# Altium schematic symbol library FPGA-pcie.SCHLIB: 44 symbols
Pins are listed as number, name and electrical type; pins without a type are passive.

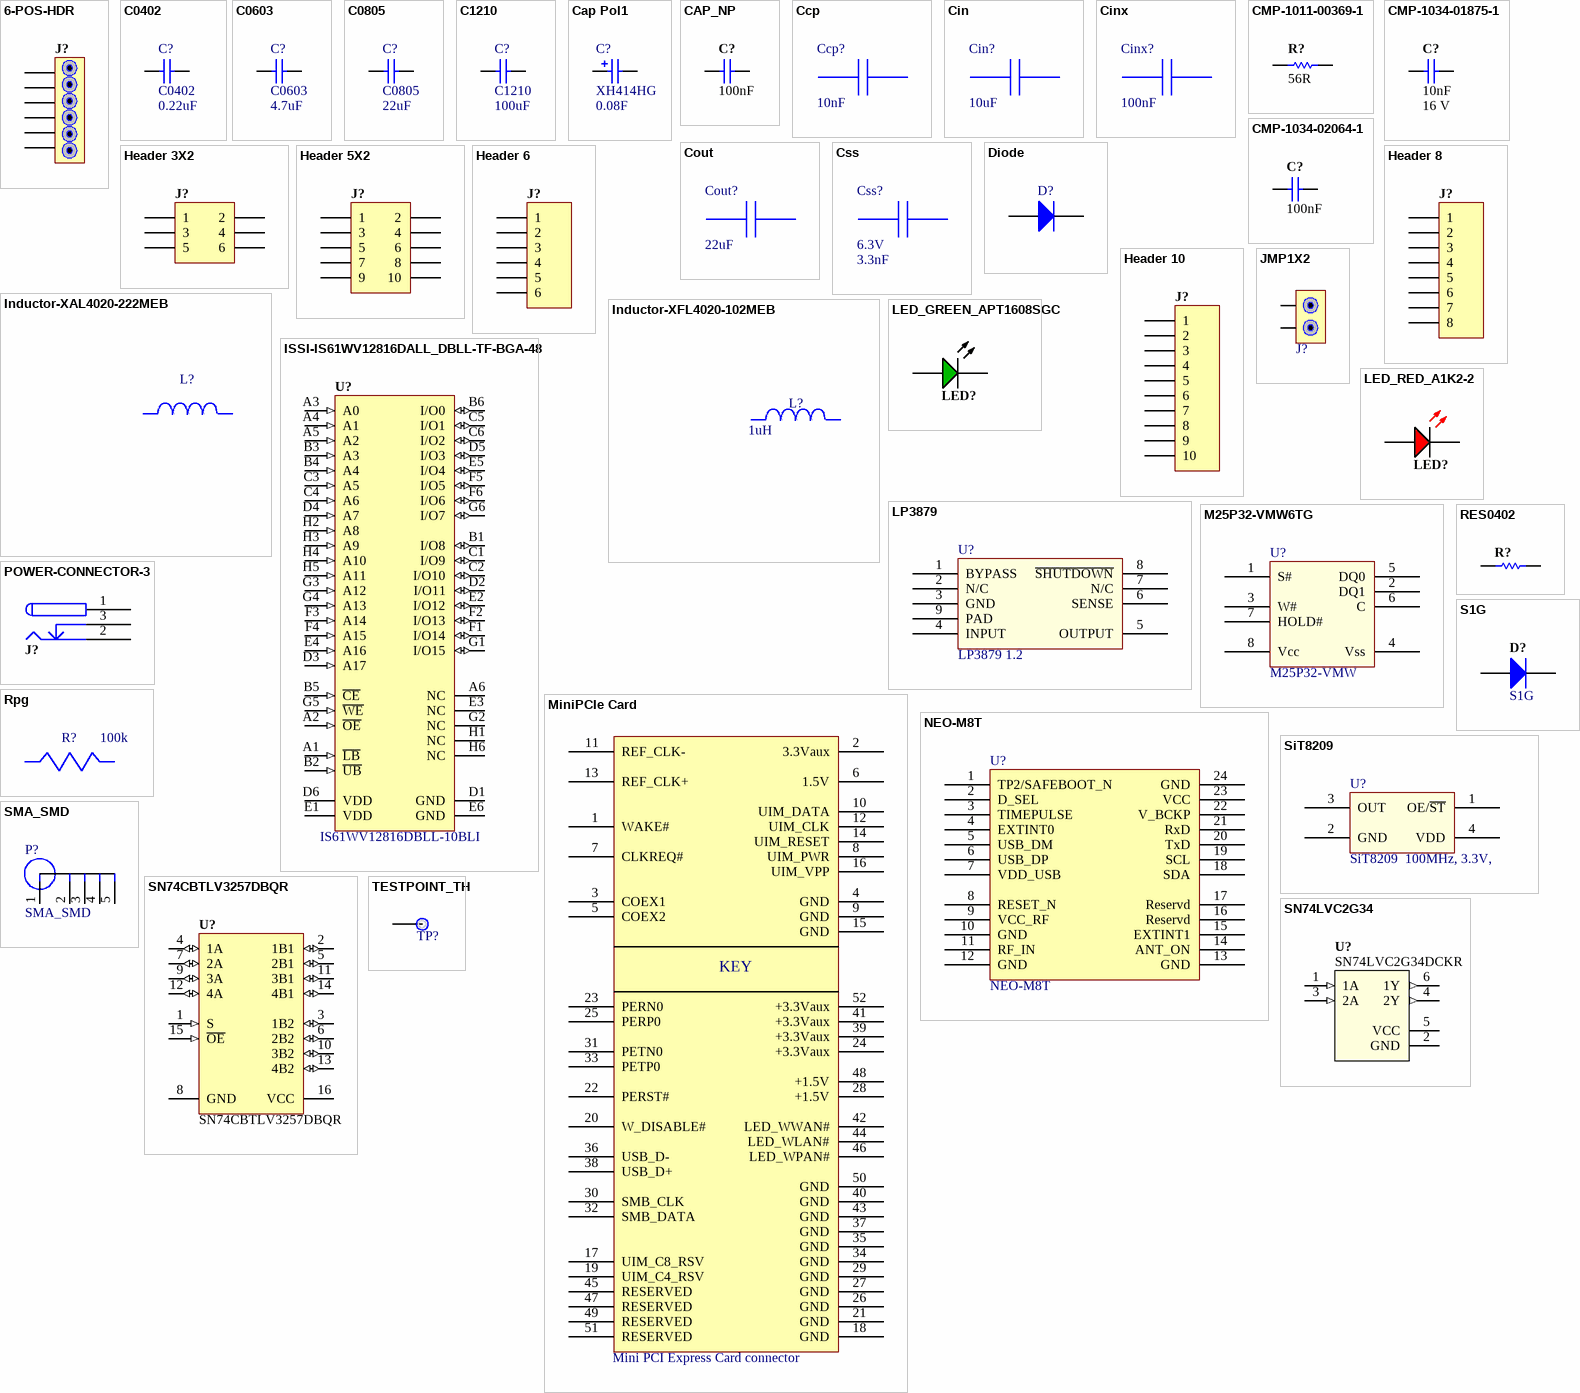
[diagram p0: symbols 6-POS-HDR to TESTPOINT_TH]

## 6-POS-HDR
designator J?, comment 6-POS VERTICAL HEADER  (value not drawn)
Manufacturer_PN: 68000-406HLF; Manufacturer Part Number: 68000-406HLF
footprint HDR1X6 (Footprint not found)
signal-integrity model Connector
footprint 1X06
pins: 1, 2, 3, 4, 5, 6

## C0402
designator C?  value 0.22uF
Ceramic Chip Capacitor - Standard; Note: Footprint corresponds to dimensions for bulk cassette packaging. This case size has tightened tolerances.; Published: 17-Jul-2002; LatestRevisionDate: 19-Mar-2004; LatestRevisionNote: Silkscreen size reduced.; DatasheetDocument: Mar-2001; PackageDocument: Mar-2001; PackageReference: 0402; Publisher: Altium Limited; Code_JEITA: 0402; Code_IPC: 1005 [0402]; ComponentLink1Description: Manufacturer Link; ComponentLink1URL: http://www.kemet.com/; ComponentLink2Description: Datasheet; ComponentLink2URL: http://www.kemet.com/kemet/web/homepage/kechome.nsf/vapubfilesname/F3102TA.pdf/$file/F3102TA.pdf
footprint CAPC0402(1005)60_L
pins: 1, 2

## C0603
designator C?  value 4.7uF
Ceramic Chip Capacitor - Standard; Note: Footprint corresponds to dimensions for bulk cassette packaging. This case size has tightened tolerances.; Published: 17-Jul-2002; LatestRevisionDate: 19-Mar-2004; LatestRevisionNote: Silkscreen size reduced.; DatasheetDocument: Mar-2001; PackageDocument: Mar-2001; PackageReference: 0603; Publisher: Altium Limited; Code_JEITA: 0603; Code_IPC: 1608 [0603]; ComponentLink1Description: Manufacturer Link; ComponentLink1URL: http://www.kemet.com/; ComponentLink2Description: Datasheet; ComponentLink2URL: http://www.kemet.com/kemet/web/homepage/kechome.nsf/vapubfilesname/F3102TA.pdf/$file/F3102TA.pdf
footprint CAPC0603(1608)55_L
pins: 1, 2

## C0805
designator C?  value 22uF
Ceramic Chip Capacitor - Standard; Note: Footprint corresponds to dimensions for bulk cassette packaging. This case size has tightened tolerances.; Published: 17-Jul-2002; LatestRevisionDate: 19-Mar-2004; LatestRevisionNote: Silkscreen size reduced.; DatasheetDocument: Mar-2001; PackageDocument: Mar-2001; PackageReference: 0805; Publisher: Altium Limited; Code_JEITA: 0805; Code_IPC: 2012[0805]; ComponentLink1Description: Manufacturer Link; ComponentLink1URL: http://www.kemet.com/; ComponentLink2Description: Datasheet; ComponentLink2URL: http://www.kemet.com/kemet/web/homepage/kechome.nsf/vapubfilesname/F3102TA.pdf/$file/F3102TA.pdf
footprint C-0805 (贴片电容)
simulation model CAP (Capacitor)
signal-integrity model C0805
pins: 1, 2

## C1210
designator C?  value 100uF
GRM32ER60J107ME20L; Manufacturer Name: Murata; Manufacturer Part Number: GRM32ER60J107ME20L
footprint C-1210 (贴片电容)
simulation model CAP (Capacitor)
signal-integrity model C1210
pins: 1, 2

## Cap Pol1
designator C?, comment XH414HG  value 0.08F
Polarized Capacitor (Radial); Published: 8-Jun-2000; LatestRevisionDate: 17-Jul-2002; LatestRevisionNote: Re-released for DXP Platform.; PackageReference: RB7.6-15; Publisher: Altium Limited
pins: 1, 2
1 alternate drawing of the same symbol

## CAP_NP
designator C?, comment value 100nF  (hidden comment: CAP 100nF 16V 0402(1005))
Manufacturer_PN: C0402C104K8PACTU; Case-EIA: 0402; Case-Metric: 1005; Tolerance: ±10%; Max Thickness: 0.6 mm; Rated Voltage: 16 V; Technology: SMT; Manufacturer Part Number: C0402C104K8PACTU
footprint CAPC0402(1005)60_L
footprint CAPC0402(1005)60_N
pins: 1, 2
1 alternate drawing of the same symbol

## Ccp
designator Ccp?, comment value 10nF  (hidden comment: GRM155R71E103KA01D)
GRM155R71E103KA0; Manufacturer Name: MuRata; PackageReference: GRM155R71E103KA01D; Manufacturer Part Number: GRM155R71E103KA01D
footprint CAPC0402(1005)60_L
pins: 1, 2

## Cin
designator Cin?, comment value 10uF  (hidden comment: GRM31CR61E106KA12L)
GRM31CR61E106KA1; Manufacturer Name: MuRata; PackageReference: GRM31CR61E106KA12L; Manufacturer Part Number: GRM31CR61E106KA12L
footprint 1206 (贴片元件)
pins: 1, 2

## Cinx
designator Cinx?, comment value 100nF  (hidden comment: C0603C104K3RACTU)
Manufacturer Name: Kemet; PackageReference: C0603C104K3RACTU; Manufacturer Part Number: C0603C104K3RACTU
footprint C-0603 (贴片电容)
pins: 1, 2

## CMP-1011-00369-1
designator R?, comment value 56R  (hidden comment: 56R 1% 0402(1005))
56R 0.063W 1% 0402 (1005 Metric)  SMD; Manufacturer_PN: RC0402FR-0756RL; Case-Metric: 1005; Case-EIA: 0402; Power: 0.063 W; Tolerance: 1 %; Technology: SMT; Manufacturer Part Number: RC0402FR-0756RL
footprint RESC0402(1005)_N (Chip Resistor, Body 1.0x0.5mm, IPC Medium Density)
footprint RESC0402(1005)_M (Chip Resistor, Body 1.0x0.5mm, IPC Low Density)
footprint RESC0402(1005)_L (Chip Resistor, Body 1.0x0.5mm, IPC High Density)
pins: 1, 2
1 alternate drawing of the same symbol

## CMP-1034-01875-1
designator C?, comment value 10nF  Rated Voltage: 16 V  (hidden comment: CAP 10nF 16V 0402(1005))
CAP 10nF 16V ±10% 0402 (1005 Metric) Thickness 0.33mm SMD; Manufacturer_PN: GRM155R61C103KA01D; Case-EIA: 0402; Case-Metric: 1005; Max Thickness: 0.33 mm; Tolerance: ±10%; Technology: SMT; Manufacturer Part Number: GRM155R61C103KA01D
footprint CAPC0402(1005)33_L (Chip Capacitor, Body 1.0x0.5mm, Height 0.33mm, IPC High Density)
footprint CAPC0402(1005)33_M (Chip Capacitor, Body 1.0x0.5mm, Height 0.33mm, IPC Low Density)
footprint CAPC0402(1005)33_N (Chip Capacitor, Body 1.0x0.5mm, Height 0.33mm, IPC Medium Density)
pins: 1, 2
1 alternate drawing of the same symbol

## CMP-1034-02064-1
designator C?, comment value 100nF  (hidden comment: CAP 100nF 10V 0402(1005))
CAP 100nF 10V ±5% 0402 (1005 Metric) Thickness 0.6mm SMD; Manufacturer_PN: C0402C104K8PACTU; Case-EIA: 0402; Case-Metric: 1005; Max Thickness: 0.6 mm; Tolerance: ±5%; Rated Voltage: 10 V; Technology: SMT; Manufacturer Part Number: C0402C104K8PACTU
footprint CAPC0402(1005)60_L (Chip Capacitor, Body 1.0x0.5mm, Height 0.6mm, IPC High Density)
footprint CAPC0402(1005)60_N (Chip Capacitor, Body 1.0x0.5mm, Height 0.6mm, IPC Medium Density)
footprint CAPC0402(1005)60_M (Chip Capacitor, Body 1.0x0.5mm, Height 0.6mm, IPC Low Density)
pins: 1, 2
1 alternate drawing of the same symbol

## Cout
designator Cout?, comment value 22uF  (hidden comment: LMK212BJ226MG-T)
Manufacturer Name: Taiyo Yuden; PackageReference: LMK212BJ226MG-T; Manufacturer Part Number: LMK212BJ226MG-T
footprint C-0805 (贴片电容)
pins: 1, 2

## Css
designator Css?, comment 6.3V  value 3.3nF
GRM022R60J332KE19D; Manufacturer Name: MuRata; PackageReference: GRM022R60J332KE19D; Manufacturer Part Number: GRM022R60J332KE19D
footprint CAPC0402(1005)60_L
pins: 1, 2

## Diode
designator D?
Default Diode; Published: 8-Jun-2000; LatestRevisionDate: 17-Jul-2002; LatestRevisionNote: Re-released for DXP Platform.; PackageDocument: Sep-1996; PackageReference: SMC; Publisher: Altium Limited; Code_JEDEC: DO-214-AB
simulation model DIODE (Diode)
signal-integrity model Diode
pins: 1 A, 2 K

## Header 3X2
designator J?  (value not drawn)
Header, 3-Pin, Dual row; Manufacturer_PN: DNP; LatestRevisionDate: 17-Jul-2002; LatestRevisionNote: Re-released for DXP Platform.; Publisher: Altium Limited; Manufacturer Part Number: DNP
footprint 2X03
signal-integrity model Connector
pins: 1, 2, 3, 4, 5, 6

## Header 5X2
designator J?  (value not drawn)
Header, 5-Pin, Dual row; Manufacturer_PN: 67997-210HLF; LatestRevisionDate: 17-Jul-2002; LatestRevisionNote: Re-released for DXP Platform.; Publisher: Altium Limited; Manufacturer Part Number: 67997-210HLF
footprint HDR2X5 (Connector; Header; 5x2 Position)
signal-integrity model Connector
pins: 1, 2, 3, 4, 5, 6, 7, 8, 9, 10

## Header 6
designator J?  (value not drawn)
Header, 6-Pin; Manufacturer_PN: DNP; LatestRevisionDate: 17-Jul-2002; LatestRevisionNote: Re-released for DXP Platform.; Publisher: Altium Limited; Manufacturer Part Number: DNP
footprint 1X06
signal-integrity model Connector
pins: 1, 2, 3, 4, 5, 6

## Header 8
designator J?  (value not drawn)
Header, 8-Pin; Manufacturer_PN: DNP; LatestRevisionDate: 17-Jul-2002; LatestRevisionNote: Re-released for DXP Platform.; Publisher: Altium Limited; Manufacturer Part Number: DNP
footprint 1X08
signal-integrity model Connector
pins: 1, 2, 3, 4, 5, 6, 7, 8

## Header 10
designator J?  (value not drawn)
Header, 10-Pin; Manufacturer_PN: DNP; LatestRevisionDate: 17-Jul-2002; LatestRevisionNote: Re-released for DXP Platform.; Publisher: Altium Limited; Manufacturer Part Number: DNP
footprint 1X10@1
signal-integrity model Connector
pins: 1, 2, 3, 4, 5, 6, 7, 8, 9, 10

## Inductor-XAL4020-222MEB
designator L?, comment L1  (value not drawn)
XAL4020-222MEB; Manufacturer Name: Coilcraft; PackageReference: XAL4020-222MEB; Manufacturer Part Number: XAL4020-222MEB
footprint XAL4020
pins: 1, 2

## Inductor-XFL4020-102MEB
designator L?, comment value 1uH  (hidden comment: XFL4020-102MEB)
Manufacturer Name: Coilcraft; Manufacturer Part Number: XFL4020-102MEB
footprint XFL4020
pins: 1, 2

## ISSI-IS61WV12816DALL_DBLL-TF-BGA-48
designator U?, comment IS61WV12816DBLL-10BLI
2 M High Speed Asynchronous CMOS SRAM, 128 K x 16, -40 to 85 degC, 48-Pin BGA (TF-BGA-48), Pb-Free; Manufacturer: Integrated Silicon Solution Inc (ISSI); Speed (ns): 10; Packing: Tray / Tube; Mounting Technology: Surface Mount; DatasheetVersion: Rev. D; PackageReference: TF-BGA-48; ComponentLink2URL: http://www.issi.com/WW/pdf/61-64WV12816DAxx-DBxx.pdf; PartNumber: IS61WV12816DBLL-10BLI; ComponentLink2Description: Datasheet; PackageDescription: 48-Pin 6 x 8 mm TF-BGA, Pitch 0.75 mm; ComponentLink1Description: Manufacturer URL; Code_JEDEC: MO-207; PackageVersion: Rev. C, 08/2008; Organization: 128K x 16; RoHS: Pb-Free; ComponentLink1URL: http://www.issi.com/US/index.shtml; ComponentLink3URL: http://www.issi.com/WW/pdf/61-64WV25616.pdf; ComponentLink3Description: Package Specification; Manufacturer_PN: IS61WV12816DBLL-10BLI; Manufacturer Part Number: IS61WV12816DBLL-10BLI
footprint ISSI-TF-BGA-48-6000X8000DE (BGA, 48-Balls, Body 8x6mm, Pitch 0.75mm)
pins: A1 ~{LB} (in) "Lower-byte Control (I/O0-I/O7)", A2 ~{OE} (in) "Output Enable Input", A3 A0 (in) "Address Input", A4 A1 (in) "Address Input", A5 A2 (in) "Address Input", A6 NC "No Connection", B1 I/O8 (io) "Data Input/Output", B2 ~{UB} (in) "Upper-byte Control (I/O8-I/O15)", B3 A3 (in) "Address Input", B4 A4 (in) "Address Input", B5 ~{CE} (in) "Chip Enable Input", B6 I/O0 (io) "Data Input/Output", C1 I/O9 (io) "Data Input/Output", C2 I/O10 (io) "Data Input/Output", C3 A5 (in) "Address Input", C4 A6 (in) "Address Input", C5 I/O1 (io) "Data Input/Output", C6 I/O2 (io) "Data Input/Output", D1 GND (power) "Ground", D2 I/O11 (io) "Data Input/Output", D3 A17 (in) "Address Input", D4 A7 (in) "Address Input", D5 I/O3 (io) "Data Input/Output", D6 VDD (power) "Power", E1 VDD (power) "Power", E2 I/O12 (io) "Data Input/Output", E3 NC "No Connection", E4 A16 (in) "Address Input", E5 I/O4 (io) "Data Input/Output", E6 GND (power) "Ground", F1 I/O14 (io) "Data Input/Output", F2 I/O13 (io) "Data Input/Output", F3 A14 (in) "Address Input", F4 A15 (in) "Address Input", F5 I/O5 (io) "Data Input/Output", F6 I/O6 (io) "Data Input/Output", G1 I/O15 (io) "Data Input/Output", G2 NC "No Connection", G3 A12 (in) "Address Input", G4 A13 (in) "Address Input", G5 ~{WE} (in) "Write Enable Input", G6 I/O7 (io) "Data Input/Output", H1 NC "No Connection", H2 A8 (in) "Address Input", H3 A9 (in) "Address Input", H4 A10 (in) "Address Input", H5 A11 (in) "Address Input", H6 NC "No Connection"

## JMP1X2
designator J?, comment Jumper  (value not drawn)
Standard 2 Pin Jumper, 100mil spacing; Manufacturer_PN: M20-9770246; Manufacturer Part Number: M20-9770246
footprint JMP1X2
signal-integrity model Connector
pins: 1, 2

## LED_GREEN_APT1608SGC
designator LED?  (value not drawn)
SMD 0603 LED, GREEN; DefaultDesignator: LED?; Class: Diodes; Forward Voltage (Vf): 2.2V; PartNumber: APT1608SGC; Sub Class: LED; Color: Green; Manufacturer_PN: APT1608SGC; Manufacturer Part Number: APT1608SGC
footprint LED0603 (Footprint not found)
pins: 1 A, 2 K

## LED_RED_A1K2-2
designator LED?, comment 0402-LED-RED  (value not drawn)
0402 LED,RED; Manufacturer_PN: LTST-C190KRKT; ID: CMP-0201-0013; DefaultDesignator: LED?; Class: Diodes; Current Average (Io): 1.8V; Sub Class: LED; Reverse Voltage DC (Vr): Red; ComponentLink1Description: Datasheet; ComponentLink1URL: http://optoelectronics.liteon.com/upload/download/DS-22-99-0151/S_110_LTST-C190KRKT.pdf; ComponentLink2Description: Manufacturer; ComponentLink2URL: http://www.liteon.com; Manufacturer Part Number: LTST-C190KRKT
footprint LED_0402
pins: 1 A, 2 K

## LP3879
designator U?, comment LP3879 1.2
footprint MRA08A
pins: 1 BYPASS, 2 N/C, 3 GND, 4 INPUT, 5 OUTPUT, 6 SENSE, 7 N/C, 8 ~{SHUTDOWN}, 9 PAD

## M25P32-VMW6TG
designator U?, comment M25P32-VMW
footprint SOIC-8W (SPI_FLASH)
pins: 1 S#, 2 DQ1, 3 W#, 4 Vss, 5 DQ0, 6 C, 7 HOLD#, 8 Vcc

## MiniPCIe Card
designator CN?, comment Mini PCI Express Card connector  (no BOM)
footprint MC2716
pins: 1 WAKE#, 2 3.3Vaux, 3 COEX1, 4 GND, 5 COEX2, 6 1.5V, 7 CLKREQ#, 8 UIM_PWR, 9 GND, 10 UIM_DATA, 11 REF_CLK-, 12 UIM_CLK, 13 REF_CLK+, 14 UIM_RESET, 15 GND, 16 UIM_VPP, 17 UIM_C8_RSV, 18 GND, 19 UIM_C4_RSV, 20 W_DISABLE#, 21 GND, 22 PERST#, 23 PERN0, 24 +3.3Vaux, 25 PERP0, 26 GND, 27 GND, 28 +1.5V, 29 GND, 30 SMB_CLK, 31 PETN0, 32 SMB_DATA, 33 PETP0, 34 GND, 35 GND, 36 USB_D-, 37 GND, 38 USB_D+, 39 +3.3Vaux, 40 GND, 41 +3.3Vaux, 42 LED_WWAN#, 43 GND, 44 LED_WLAN#, 45 RESERVED, 46 LED_WPAN#, 47 RESERVED, 48 +1.5V, 49 RESERVED, 50 GND, 51 RESERVED, 52 +3.3Vaux
text: KEY

## NEO-M8T
designator U?
footprint NEO (u-blox NEO GNSS module)
pins: 1 TP2/SAFEBOOT_N, 2 D_SEL, 3 TIMEPULSE, 4 EXTINT0, 5 USB_DM, 6 USB_DP, 7 VDD_USB, 8 RESET_N, 9 VCC_RF, 10 GND, 11 RF_IN, 12 GND, 13 GND, 14 ANT_ON, 15 EXTINT1, 16 Reservd, 17 Reservd, 18 SDA, 19 SCL, 20 TxD, 21 RxD, 22 V_BCKP, 23 VCC, 24 GND

## POWER-CONNECTOR-3
designator J?, comment PWR CONNECTOR  (value not drawn)
Connector, 3 Conductor Power Jack; Manufacturer_PN: CP-102AH-ND; Connector type: POWERJACK 3 HEADER; ClassName: PWR_CONN_5V0; Category: Connector; Mounting Technology: PTH; Pin Count: 3; Manufacturer Part Number: CP-102AH-ND
footprint PJ-102AH
3D model Socket_1
pins: 1 (power), 2 (power), 3 (power)

## RES0402
designator R?, comment 0402  (value not drawn)
Manufacturer_PN: ？; Case-Metric: 1005; Power: 1/16 W; Temp Coefficient ppm/°C: ±100; Tolerance %: 1%; Value (Ohms): 4700; Case-EIA: 0402; Technology: SMT; Manufacturer Part Number: ？
footprint RESC0402(1005)40_L
footprint RESC0402(1005)_N
pins: 1, 2
1 alternate drawing of the same symbol

## Rpg
designator R?, comment value 100k  (hidden comment: CRCW0402100KFKED)
Manufacturer Name: Vishay-Dale; PackageReference: CRCW0402100KFKED; Manufacturer Part Number: CRCW0402100KFKED
pins: 1, 2

## S1G
designator D?
Fairchild S1G General Purpose Rectifier; Vrrm: 400V; If(AV): 1.0A; Ifsm: 30A; Pd: 1.4W; Trr: 1.8uS; Ct: 6.6pF; Package: DO-214AC; Manufacturer_PN: S1G; Manufacturer Part Number: S1G
footprint DO-214AC (SMA, 2-Leads, Body 4.245x2.665mm, Height 2.29mm)
pins: 1, 2

## SiT8209
designator U?, comment SiT8209  100MHz, 3.3V,
pins: 1 OE/~{ST}, 2 GND, 3 OUT, 4 VDD

## SMA_SMD
designator P?
footprint SMA
pins: 1, 2, 3, 4, 5

## SN74CBTLV3257DBQR
designator U?
Low-Voltage 4-Bit 1-Of-2 FET Multiplexer/Demultiplexer, 16-pin SOP (DBQ16); Supply Voltage: 2.3 to 3.6 V; Channel: 4; DatasheetVersion: SCDS040J, 10/2003; Mounting Technology: Surface Mount; PartNumber: SN74CBTLV3257DBQR; ComponentLink3URL: http://www.ti.com/lit/ml/msoi004g/msoi004g.pdf; ComponentLink2Description: Datasheet; ComponentLink1URL: http://www.ti.com/; PackageVersion: 4073301-2/H, 10/2008; ComponentLink1Description: Manufacturer URL; ComponentLink3Description: Package Specification; PackageDescription: 16-Pin Plastic Small Outline, 3.9 x 4.9 mm Body, 0.635 mm Pitch; ComponentLink2URL: http://www.ti.com/lit/ds/symlink/sn74cbtlv3257.pdf; PackageReference: DBQ16; Manufacturer_PN: SN74CBTLV3257DBQR; Manufacturer Part Number: SN74CBTLV3257DBQR
footprint DBQ16
pins: 1 S (in), 2 1B1 (io), 3 1B2 (io), 4 1A (io), 5 2B1 (io), 6 2B2 (io), 7 2A (io), 8 GND (power), 9 3A (io), 10 3B2 (io), 11 3B1 (io), 12 4A (io), 13 4B2 (io), 14 4B1 (io), 15 ~{OE} (in), 16 VCC (power)

## SN74LVC2G34
designator U?, comment SN74LVC2G34DCKR
IC BUFFER DUAL NON-INV SC706; Manufacturer: Texas Instruments; DefaultDesignator: U?; Class: Logic; Sub Class: Buffer-Line Driver; Description2: IC BUFF/DVR TRI-ST OCTAL 20-VQFN; Logic Type: Buffer/Line Driver, Non-Inverting; Number of Elements: 2; Number of Bits per Element: 4; Current - Output High, Low: 24mA, 24mA; Voltage - Supply: 1.65 V ~ 3.6 V; PartNumber: SN74LVC2G34DCKR; ComponentLink1Description: Datasheet; ComponentLink1URL: http://www.ti.com/lit/ds/symlink/sn74lvc2g34.pdf; ComponentLink2Description: Manufacturer; ComponentLink2URL: www.ti.com; Series: 74LVC; Operating Temperature: -40°C ~ 125°C; Manufacturer_PN: SN74LVC2G34DCKR; Manufacturer Part Number: SN74LVC2G34DCKR
footprint TI-DCK6_L
pins: 1 1A (in), 2 GND (power), 3 2A (in), 4 2Y (out), 5 VCC (power), 6 1Y (out)

## TESTPOINT_TH
designator TP?  (value not drawn)
Manufacturer_PN: TESTPOINT; Manufacturer Part Number: TESTPOINT
footprint TESTPOINT_TH (Footprint not found)
pins: 1

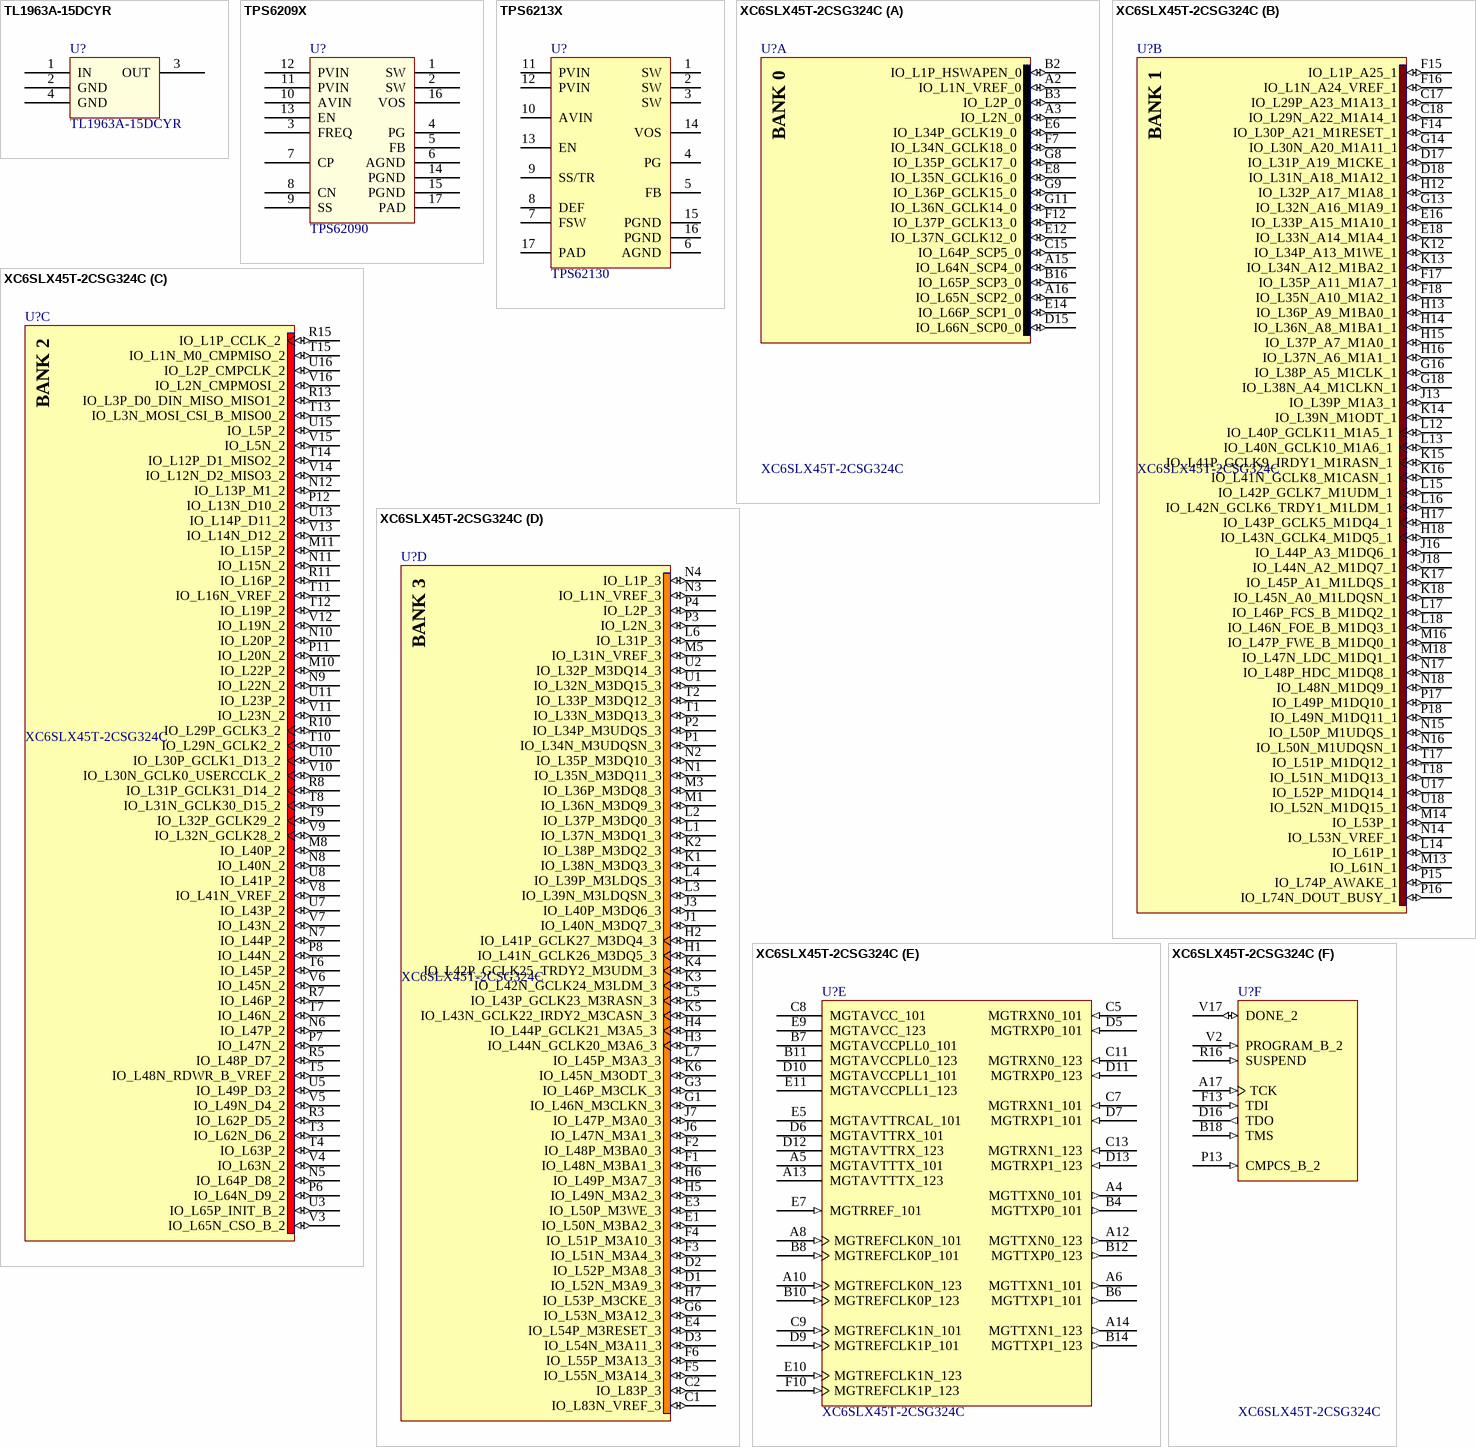
[diagram p1: symbols TL1963A-15DCYR to XC6SLX45T-2CSG324C]

## TL1963A-15DCYR
designator U?
footprint DCY4
pins: 1 IN, 2 GND, 3 OUT, 4 GND

## TPS6209X
designator U?, comment TPS62090
footprint RGT16_1P7X1P7
pins: 1 SW, 2 SW, 3 FREQ, 4 PG, 5 FB, 6 AGND, 7 CP, 8 CN, 9 SS, 10 AVIN, 11 PVIN, 12 PVIN, 13 EN, 14 PGND, 15 PGND, 16 VOS, 17 PAD

## TPS6213X
designator U?, comment TPS62130
footprint S-PVQFN-N16
pins: 1 SW, 2 SW, 3 SW, 4 PG, 5 FB, 6 AGND, 7 FSW, 8 DEF, 9 SS/TR, 10 AVIN, 11 PVIN, 12 PVIN, 13 EN, 14 VOS, 15 PGND, 16 PGND, 17 PAD

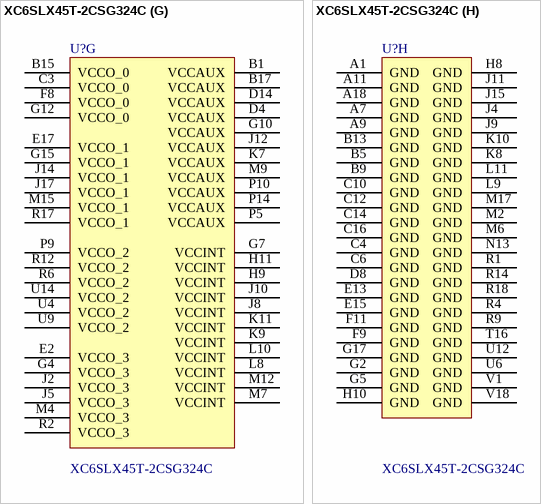
[diagram p2: symbol XC6SLX45T-2CSG324C]

## XC6SLX45T-2CSG324C
designator U?
Spartan-6 LXT 1.2V FPGA, 190 User I/Os, 324-Ball Chip-Scale BGA (0.8mm Pitch), Speed Grade 2, Commercial Grade, Pb-Free; Published: 17-Nov-2009; DatasheetVersion: ver1.6, Nov-2010; PackageVersion: ver1.1, Nov-2009; PackageReference: CSG324; Publisher: Altium Limited; PackageDescription: 324-Ball Chip-Scale BGA (CSG324) Package, 0.8 mm Pitch; Supplier 1: Digi-Key; Supplier Part Number 1: XC6SLX45T-2CSG324C-ND; Code_JEDEC: MO-275-KKAC-1; ComponentLink1Description: Manufacturer Link; ComponentLink1URL: http://www.xilinx.com; ComponentLink2Description: Spartan-6 Datasheet; ComponentLink2URL: http://www.xilinx.com/support/documentation/data_sheets/ds160.pdf; ComponentLink3Description: Spartan-6 Documents; ComponentLink3URL: http://www.xilinx.com/support/documentation/spartan-6.htm; ComponentLink4Description: Xilinx.com Home; ComponentLink4URL: http://www.xilinx.com
footprint CSG324 (BGA, 324-Leads, Body 15x15mm, Pitch 0.8mm)
signal-integrity model XC6SLX45T_CSG324 (Spartan-6)
part A pins: A2 IO_L1N_VREF_0 (io), A3 IO_L2N_0 (io), A15 IO_L64N_SCP4_0 (io), A16 IO_L65N_SCP2_0 (io), B2 IO_L1P_HSWAPEN_0 (io), B3 IO_L2P_0 (io), B16 IO_L65P_SCP3_0 (io), C15 IO_L64P_SCP5_0 (io), D15 IO_L66N_SCP0_0 (io), E6 IO_L34P_GCLK19_0 (io), E8 IO_L35N_GCLK16_0 (io), E12 IO_L37N_GCLK12_0 (io), E14 IO_L66P_SCP1_0 (io), F7 IO_L34N_GCLK18_0 (io), F12 IO_L37P_GCLK13_0 (io), G8 IO_L35P_GCLK17_0 (io), G9 IO_L36P_GCLK15_0 (io), G11 IO_L36N_GCLK14_0 (io)
part B pins: C17 IO_L29P_A23_M1A13_1 (io), C18 IO_L29N_A22_M1A14_1 (io), D17 IO_L31P_A19_M1CKE_1 (io), D18 IO_L31N_A18_M1A12_1 (io), E16 IO_L33P_A15_M1A10_1 (io), E18 IO_L33N_A14_M1A4_1 (io), F14 IO_L30P_A21_M1RESET_1 (io), F15 IO_L1P_A25_1 (io), F16 IO_L1N_A24_VREF_1 (io), F17 IO_L35P_A11_M1A7_1 (io), F18 IO_L35N_A10_M1A2_1 (io), G13 IO_L32N_A16_M1A9_1 (io), G14 IO_L30N_A20_M1A11_1 (io), G16 IO_L38P_A5_M1CLK_1 (io), G18 IO_L38N_A4_M1CLKN_1 (io), H12 IO_L32P_A17_M1A8_1 (io), H13 IO_L36P_A9_M1BA0_1 (io), H14 IO_L36N_A8_M1BA1_1 (io), H15 IO_L37P_A7_M1A0_1 (io), H16 IO_L37N_A6_M1A1_1 (io), H17 IO_L43P_GCLK5_M1DQ4_1 (io), H18 IO_L43N_GCLK4_M1DQ5_1 (io), J13 IO_L39P_M1A3_1 (io), J16 IO_L44P_A3_M1DQ6_1 (io), J18 IO_L44N_A2_M1DQ7_1 (io), K12 IO_L34P_A13_M1WE_1 (io), K13 IO_L34N_A12_M1BA2_1 (io), K14 IO_L39N_M1ODT_1 (io), K15 IO_L41P_GCLK9_IRDY1_M1RASN_1 (io), K16 IO_L41N_GCLK8_M1CASN_1 (io), K17 IO_L45P_A1_M1LDQS_1 (io), K18 IO_L45N_A0_M1LDQSN_1 (io), L12 IO_L40P_GCLK11_M1A5_1 (io), L13 IO_L40N_GCLK10_M1A6_1 (io), L14 IO_L61P_1 (io), L15 IO_L42P_GCLK7_M1UDM_1 (io), L16 IO_L42N_GCLK6_TRDY1_M1LDM_1 (io), L17 IO_L46P_FCS_B_M1DQ2_1 (io), L18 IO_L46N_FOE_B_M1DQ3_1 (io), M13 IO_L61N_1 (io), M14 IO_L53P_1 (io), M16 IO_L47P_FWE_B_M1DQ0_1 (io), M18 IO_L47N_LDC_M1DQ1_1 (io), N14 IO_L53N_VREF_1 (io), N15 IO_L50P_M1UDQS_1 (io), N16 IO_L50N_M1UDQSN_1 (io), N17 IO_L48P_HDC_M1DQ8_1 (io), N18 IO_L48N_M1DQ9_1 (io), P15 IO_L74P_AWAKE_1 (io), P16 IO_L74N_DOUT_BUSY_1 (io), P17 IO_L49P_M1DQ10_1 (io), P18 IO_L49N_M1DQ11_1 (io), T17 IO_L51P_M1DQ12_1 (io), T18 IO_L51N_M1DQ13_1 (io), U17 IO_L52P_M1DQ14_1 (io), U18 IO_L52N_M1DQ15_1 (io)
part C pins: M8 IO_L40P_2 (io), M10 IO_L22P_2 (io), M11 IO_L15P_2 (io), N5 IO_L64P_D8_2 (io), N6 IO_L47P_2 (io), N7 IO_L44P_2 (io), N8 IO_L40N_2 (io), N9 IO_L22N_2 (io), N10 IO_L20P_2 (io), N11 IO_L15N_2 (io), N12 IO_L13P_M1_2 (io), P6 IO_L64N_D9_2 (io), P7 IO_L47N_2 (io), P8 IO_L44N_2 (io), P11 IO_L20N_2 (io), P12 IO_L13N_D10_2 (io), R3 IO_L62P_D5_2 (io), R5 IO_L48P_D7_2 (io), R7 IO_L46P_2 (io), R8 IO_L31P_GCLK31_D14_2 (io), R10 IO_L29P_GCLK3_2 (io), R11 IO_L16P_2 (io), R13 IO_L3P_D0_DIN_MISO_MISO1_2 (io), R15 IO_L1P_CCLK_2 (io), T3 IO_L62N_D6_2 (io), T4 IO_L63P_2 (io), T5 IO_L48N_RDWR_B_VREF_2 (io), T6 IO_L45P_2 (io), T7 IO_L46N_2 (io), T8 IO_L31N_GCLK30_D15_2 (io), T9 IO_L32P_GCLK29_2 (io), T10 IO_L29N_GCLK2_2 (io), T11 IO_L16N_VREF_2 (io), T12 IO_L19P_2 (io), T13 IO_L3N_MOSI_CSI_B_MISO0_2 (io), T14 IO_L12P_D1_MISO2_2 (io), T15 IO_L1N_M0_CMPMISO_2 (io), U3 IO_L65P_INIT_B_2 (io), U5 IO_L49P_D3_2 (io), U7 IO_L43P_2 (io), U8 IO_L41P_2 (io), U10 IO_L30P_GCLK1_D13_2 (io), U11 IO_L23P_2 (io), U13 IO_L14P_D11_2 (io), U15 IO_L5P_2 (io), U16 IO_L2P_CMPCLK_2 (io), V3 IO_L65N_CSO_B_2 (io), V4 IO_L63N_2 (io), V5 IO_L49N_D4_2 (io), V6 IO_L45N_2 (io), V7 IO_L43N_2 (io), V8 IO_L41N_VREF_2 (io), V9 IO_L32N_GCLK28_2 (io), V10 IO_L30N_GCLK0_USERCCLK_2 (io), V11 IO_L23N_2 (io), V12 IO_L19N_2 (io), V13 IO_L14N_D12_2 (io), V14 IO_L12N_D2_MISO3_2 (io), V15 IO_L5N_2 (io), V16 IO_L2N_CMPMOSI_2 (io)
part D pins: C1 IO_L83N_VREF_3 (io), C2 IO_L83P_3 (io), D1 IO_L52N_M3A9_3 (io), D2 IO_L52P_M3A8_3 (io), D3 IO_L54N_M3A11_3 (io), E1 IO_L50N_M3BA2_3 (io), E3 IO_L50P_M3WE_3 (io), E4 IO_L54P_M3RESET_3 (io), F1 IO_L48N_M3BA1_3 (io), F2 IO_L48P_M3BA0_3 (io), F3 IO_L51N_M3A4_3 (io), F4 IO_L51P_M3A10_3 (io), F5 IO_L55N_M3A14_3 (io), F6 IO_L55P_M3A13_3 (io), G1 IO_L46N_M3CLKN_3 (io), G3 IO_L46P_M3CLK_3 (io), G6 IO_L53N_M3A12_3 (io), H1 IO_L41N_GCLK26_M3DQ5_3 (io), H2 IO_L41P_GCLK27_M3DQ4_3 (io), H3 IO_L44N_GCLK20_M3A6_3 (io), H4 IO_L44P_GCLK21_M3A5_3 (io), H5 IO_L49N_M3A2_3 (io), H6 IO_L49P_M3A7_3 (io), H7 IO_L53P_M3CKE_3 (io), J1 IO_L40N_M3DQ7_3 (io), J3 IO_L40P_M3DQ6_3 (io), J6 IO_L47N_M3A1_3 (io), J7 IO_L47P_M3A0_3 (io), K1 IO_L38N_M3DQ3_3 (io), K2 IO_L38P_M3DQ2_3 (io), K3 IO_L42N_GCLK24_M3LDM_3 (io), K4 IO_L42P_GCLK25_TRDY2_M3UDM_3 (io), K5 IO_L43N_GCLK22_IRDY2_M3CASN_3 (io), K6 IO_L45N_M3ODT_3 (io), L1 IO_L37N_M3DQ1_3 (io), L2 IO_L37P_M3DQ0_3 (io), L3 IO_L39N_M3LDQSN_3 (io), L4 IO_L39P_M3LDQS_3 (io), L5 IO_L43P_GCLK23_M3RASN_3 (io), L6 IO_L31P_3 (io), L7 IO_L45P_M3A3_3 (io), M1 IO_L36N_M3DQ9_3 (io), M3 IO_L36P_M3DQ8_3 (io), M5 IO_L31N_VREF_3 (io), N1 IO_L35N_M3DQ11_3 (io), N2 IO_L35P_M3DQ10_3 (io), N3 IO_L1N_VREF_3 (io), N4 IO_L1P_3 (io), P1 IO_L34N_M3UDQSN_3 (io), P2 IO_L34P_M3UDQS_3 (io), P3 IO_L2N_3 (io), P4 IO_L2P_3 (io), T1 IO_L33N_M3DQ13_3 (io), T2 IO_L33P_M3DQ12_3 (io), U1 IO_L32N_M3DQ15_3 (io), U2 IO_L32P_M3DQ14_3 (io)
part E pins: A4 MGTTXN0_101 (out), A5 MGTAVTTTX_101 (power), A6 MGTTXN1_101 (out), A8 MGTREFCLK0N_101 (in), A10 MGTREFCLK0N_123 (in), A12 MGTTXN0_123 (out), A13 MGTAVTTTX_123 (power), A14 MGTTXN1_123 (out), B4 MGTTXP0_101 (out), B6 MGTTXP1_101 (out), B7 MGTAVCCPLL0_101 (power), B8 MGTREFCLK0P_101 (in), B10 MGTREFCLK0P_123 (in), B11 MGTAVCCPLL0_123 (power), B12 MGTTXP0_123 (out), B14 MGTTXP1_123 (out), C5 MGTRXN0_101 (in), C7 MGTRXN1_101 (in), C8 MGTAVCC_101 (power), C9 MGTREFCLK1N_101 (in), C11 MGTRXN0_123 (in), C13 MGTRXN1_123 (in), D5 MGTRXP0_101 (in), D6 MGTAVTTRX_101 (power), D7 MGTRXP1_101 (in), D9 MGTREFCLK1P_101 (in), D10 MGTAVCCPLL1_101 (power), D11 MGTRXP0_123 (in), D12 MGTAVTTRX_123 (power), D13 MGTRXP1_123 (in), E5 MGTAVTTRCAL_101 (power), E7 MGTRREF_101 (in), E9 MGTAVCC_123 (power), E10 MGTREFCLK1N_123 (in), E11 MGTAVCCPLL1_123 (power), F10 MGTREFCLK1P_123 (in)
part F pins: A17 TCK (in), B18 TMS (in), D16 TDO (out), F13 TDI (in), P13 CMPCS_B_2 (in), R16 SUSPEND (in), V2 PROGRAM_B_2 (in), V17 DONE_2 (io)
part G pins: B1 VCCAUX (power), B15 VCCO_0 (power), B17 VCCAUX (power), C3 VCCO_0 (power), D4 VCCAUX (power), D14 VCCAUX (power), E2 VCCO_3 (power), E17 VCCO_1 (power), F8 VCCO_0 (power), G4 VCCO_3 (power), G7 VCCINT (power), G10 VCCAUX (power), G12 VCCO_0 (power), G15 VCCO_1 (power), H9 VCCINT (power), H11 VCCINT (power), J2 VCCO_3 (power), J5 VCCO_3 (power), J8 VCCINT (power), J10 VCCINT (power), J12 VCCAUX (power), J14 VCCO_1 (power), J17 VCCO_1 (power), K7 VCCAUX (power), K9 VCCINT (power), K11 VCCINT (power), L8 VCCINT (power), L10 VCCINT (power), M4 VCCO_3 (power), M7 VCCINT (power), M9 VCCAUX (power), M12 VCCINT (power), M15 VCCO_1 (power), P5 VCCAUX (power), P9 VCCO_2 (power), P10 VCCAUX (power), P14 VCCAUX (power), R2 VCCO_3 (power), R6 VCCO_2 (power), R12 VCCO_2 (power), R17 VCCO_1 (power), U4 VCCO_2 (power), U9 VCCO_2 (power), U14 VCCO_2 (power)
part H pins: A1 GND (power), A7 GND (power), A9 GND (power), A11 GND (power), A18 GND (power), B5 GND (power), B9 GND (power), B13 GND (power), C4 GND (power), C6 GND (power), C10 GND (power), C12 GND (power), C14 GND (power), C16 GND (power), D8 GND (power), E13 GND (power), E15 GND (power), F9 GND (power), F11 GND (power), G2 GND (power), G5 GND (power), G17 GND (power), H8 GND (power), H10 GND (power), J4 GND (power), J9 GND (power), J11 GND (power), J15 GND (power), K8 GND (power), K10 GND (power), L9 GND (power), L11 GND (power), M2 GND (power), M6 GND (power), M17 GND (power), N13 GND (power), R1 GND (power), R4 GND (power), R9 GND (power), R14 GND (power), R18 GND (power), T16 GND (power), U6 GND (power), U12 GND (power), V1 GND (power), V18 GND (power)
part A text: BANK 0
part B text: BANK 1
part C text: BANK 2
part D text: BANK 3